# Altium footprint library footprints.PcbLib: 8 footprints
Each footprint in its own frame and in the unit in brackets; x right, y up, seen from the top. Pads: shape width x height; smd on the part's side, far side on the other; paste and mask are expansions set on the pad; w line width, h text height; cw(c..) or ccw(c..) is an arc to the next point about the centre after c.
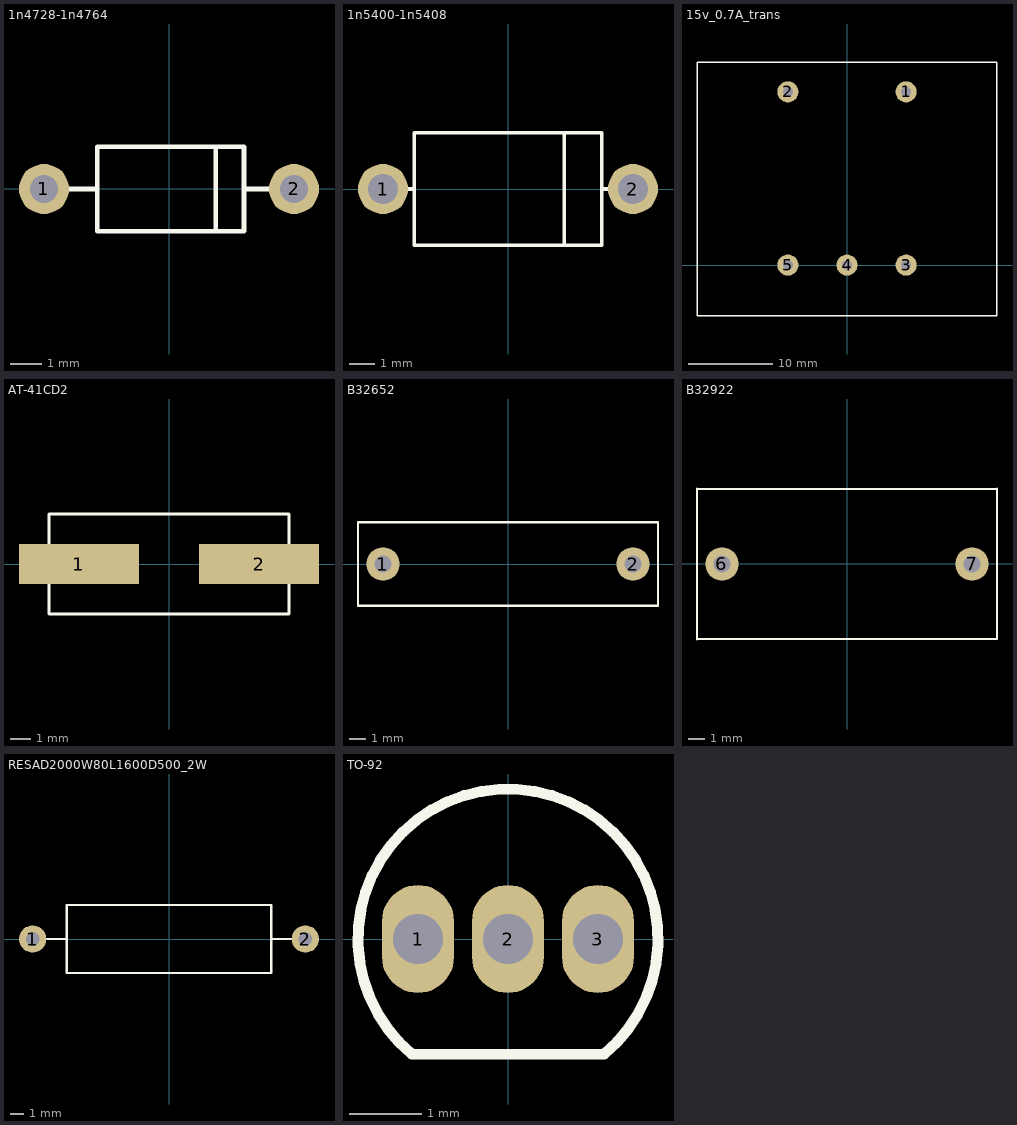
[diagram p0: the footprints below, top view; thin cyan lines are the x and y axes]

## 1n4728-1n4764 [mm]
pads (2):
  round 1.6 hole 0.9: 1(-4,0) 2(4,0)
Top Overlay:
  lines w0.15: -4,0 -2.3,0 ; 1.5,-1.35 1.5,1.35 ; 2.4,0 4,0 ; -2.3,-1.35 2.4,-1.35 2.4,1.35 -2.3,1.35 -2.3,-1.35

## 1n5400-1n5408 [mm]
pads (2):
  round 2 hole 1.2: 1(-5,0) 2(5,0)
Top Overlay:
  lines w0.15: -5,0 -3.75,0 ; 2.25,-2.25 2.25,2.25 ; 3.75,0 5,0 ; -3.75,-2.25 -3.75,2.25 3.75,2.25 3.75,-2.25 -3.75,-2.25

## 15v_0.7A_trans [mm]
pads (5):
  round 2.5 hole 1.2: 1(7,20.5) 2(-7,20.5) 3(7,0) 4(0,0) 5(-7,0)
Top Overlay:
  lines w0.15: -17.75,-6 17.75,-6 17.75,24 -17.75,24 -17.75,-6

## AT-41CD2 [mm]
pads (2):
  rect 6x2 smd: 1(-4.5,0) 2(4.5,0)
Top Overlay:
  lines w0.15: -6,-2.5 6,-2.5 6,2.5 -6,2.5 -6,-2.5
3D body "ECS-80-18-5P-TR.STEP": height 4.3, standoff 0, extent -6.6,-2.4 6.6,2.4

## B32652 [mm]
pads (2):
  round 2 hole 1: 1(-7.5,0) 2(7.5,0)
Top Overlay:
  lines w0.15: -9,-2.5 9,-2.5 9,2.5 -9,2.5 -9,-2.5
3D body: height 10.5, standoff 0, extent -9,-2.5 9,2.5

## B32922 [mm]
pads (2):
  round 2 hole 1: 6(-7.5,0) 7(7.5,0)
Top Overlay:
  lines w0.15: -9,-4.5 9,-4.5 9,4.5 -9,4.5 -9,0 -9,-4.5
3D body: height 17.5, standoff 0, extent -9,-4.5 9,4.5

## RESAD2000W80L1600D500_2W [mm]
pads (2):
  round 2 hole 1: 1(-10,0) 2(10,0)
Top Overlay:
  lines w0.15: -10,0 -7.5,0 ; 10,0 7.5,0 ; -7.5,0 -7.5,2.5 7.5,2.5 7.5,0 ; -7.5,0 -7.5,-2.5 7.5,-2.5 7.5,0
3D body: height 4.3, standoff 0, extent 2.5,5 2.5,5
3D body "RESAD2000W80L1600D500_2W.STEP": height 5, standoff -3, extent -10.4,-2.5 10.4,2.5

## TO-92 [mm]
pads (3):
  oval 1x1.5 hole 0.7: 1(-1.25,0) 2(0,0) 3(1.25,0)
Top Overlay:
  lines w0.15: -1.334,-1.6 cw(c0,0) 1.334,-1.6 0.084,-1.6 -1.334,-1.6